# EAGLE library part ST202ECDR (library ST Microelectronics)
± 15 kV ESD protected 5 V RS-232 transceiver
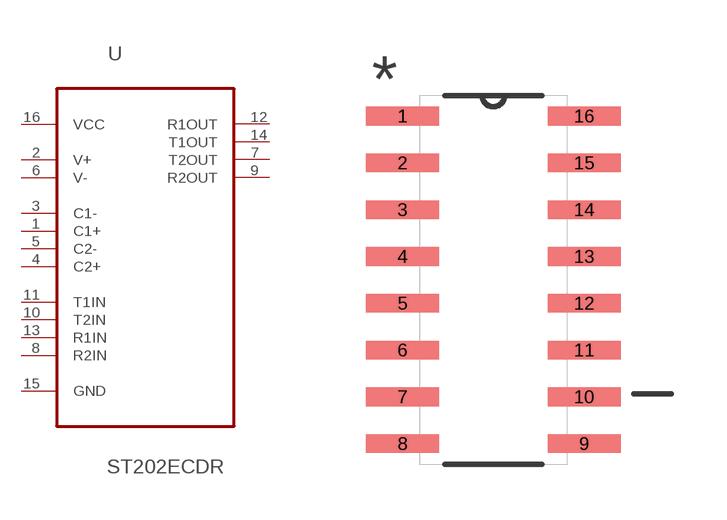
[diagram p294: symbol with the pads of SOIC127P600X175-16N; footprint SOIC127P600X175-16N]

Designator prefix U

## ST202ECDR (MPN: ST202ECDR; OC_FARNELL: 1564302; OC_NEWARK: 89K0986; PACKAGE: SOIC-16; SUPPLIER: STMICROELECTRONICS)  [SOIC127P600X175-16N]
1  C1+  in
2  V+  in
3  C1-  in
4  C2+  in
5  C2-  in
6  V-  in
7  T2OUT  out
8  R2IN  in
9  R2OUT  out
10  T2IN  in
11  T1IN  in
12  R1OUT  out
13  R1IN  in
14  T1OUT  out
15  GND  pas
16  VCC  pwr

## Footprint SOIC127P600X175-16N (pad centres in mm)
smd 1.981 x 0.508: 1 -2.464,4.445; 2 -2.464,3.175; 3 -2.464,1.905; 4 -2.464,0.635; 5 -2.464,-0.635; 6 -2.464,-1.905; 7 -2.464,-3.175; 8 -2.464,-4.445; 9 2.464,-4.445; 10 2.464,-3.175; 11 2.464,-1.905; 12 2.464,-0.635; 13 2.464,0.635; 14 2.464,1.905; 15 2.464,3.175; 16 2.464,4.445